# Altium schematic symbol library ST715.Schlib: 1 symbol
Pins are listed as number, name and electrical type; pins without a type are passive.

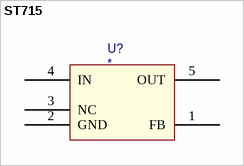
[diagram p0: symbol ST715]

## ST715
designator U?
pins: 1 FB, 2 GND, 3 NC, 4 IN, 5 OUT